# Altium footprint library PcbLib1.PcbLib: 4 footprints
Each footprint in its own frame and in the unit in brackets; x right, y up, seen from the top. Pads: shape width x height; smd on the part's side, far side on the other; paste and mask are expansions set on the pad; w line width, h text height; cw(c..) or ccw(c..) is an arc to the next point about the centre after c.
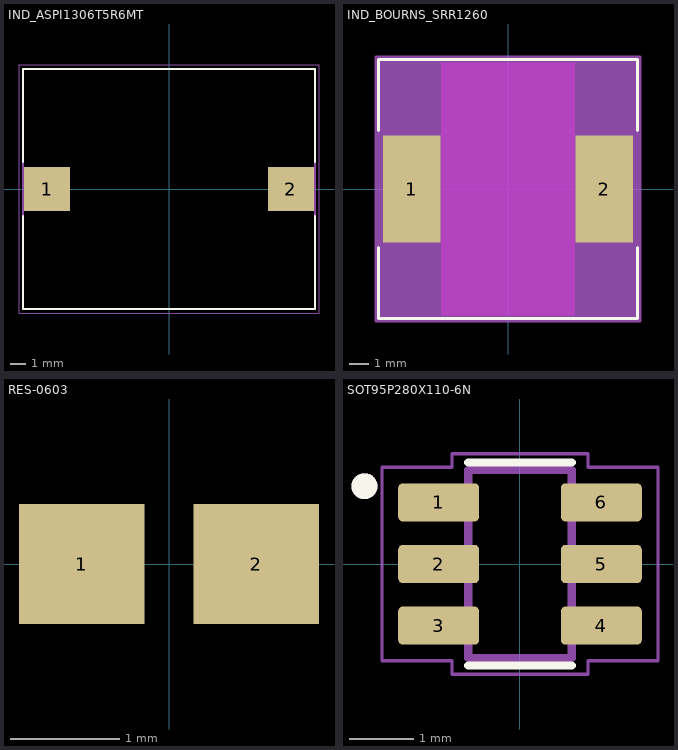
[diagram p0: the footprints below, top view; thin cyan lines are the x and y axes]

## IND_ASPI1306T5R6MT [mm]
height 7.11
pads (2):
  rect 2.92x2.79 smd: 1(-7.73,0) 2(7.73,0)
Top Overlay:
  lines w0.127: -9.27,-1.715 -9.27,-7.62 9.27,-7.62 9.27,-1.715 ; -9.27,1.715 -9.27,7.62 9.27,7.62 9.27,1.715
Mechanical 13:
  lines w0.127: -9.27,-7.62 -9.27,7.62 9.27,7.62 9.27,-7.62 -9.27,-7.62
Mechanical 15:
  lines w0.05: -9.52,-7.87 -9.52,7.87 9.52,7.87 9.52,-7.87 -9.52,-7.87

## IND_BOURNS_SRR1260 [mil]
pads (2):
  rect 114x213 smd paste+0 mask+0: 1(-191,0) 2(191,0)
Top Layer keep-out:
  region: -132,-250 -132,250 132,250 132,-250
Top Overlay:
  lines w6: -257,-116.02 -257,-257 257,-257 257,-116.02 ; -257,116.02 -257,257 257,257 257,116.02
Mechanical 13:
  lines w1: -252,-252 -252,252 252,252 252,-252 -252,-252
Mechanical 15:
  region: -262,-116.5 -262,116.5 -262,262 262,262 262,116.5 262,-116.5 262,-262 -262,-262
  lines w6: -262,-262 262,-262 262,-116.5 262,116.5 262,262 -262,262 -262,116.5 -262,-116.5 -262,-262
3D body "IND_BOURNS_SRR1260.step": height 255.98, standoff 0, extent -252.01,-252.09 252.01,252.09

## RES-0603 [mm]
pads (2):
  rect 1.15x1.1 smd: 1(-0.8,0) 2(0.8,0)
3D body "2176051-4.STEP": height 0.43, standoff -0.03, extent -0.8,-0.4 0.8,0.4

## SOT95P280X110-6N [mm]
height 1.1
pads (6):
  rrect25% 1.25x0.59 smd: 1(-1.255,0.95) 2(-1.255,0) 3(-1.255,-0.95) 4(1.255,-0.95) 5(1.255,0) 6(1.255,0.95)
Top Overlay:
  circle w0.2: c-2.4,1.2 r0.1
  lines w0.127: -0.8,-1.565 0.8,-1.565 ; -0.8,1.565 0.8,1.565
Mechanical 13:
  circle w0.2: c-2.4,1.2 r0.1
  lines w0.127: -0.8,-1.45 -0.8,1.45 0.8,1.45 0.8,-1.45 -0.8,-1.45
Mechanical 15:
  lines w0.05: -2.13,-1.495 -2.13,1.495 -1.05,1.495 -1.05,1.7 1.05,1.7 1.05,1.495 2.13,1.495 2.13,-1.495 1.05,-1.495 1.05,-1.7 -1.05,-1.7 -1.05,-1.495 -2.13,-1.495
3D body "step_temp.STEP": height 1.1, standoff 0, extent -1.4,-1.45 1.4,1.45